# Altium schematic symbol library PSOM.SchLib: 3 symbols
Pins are listed as number, name and electrical type; pins without a type are passive.

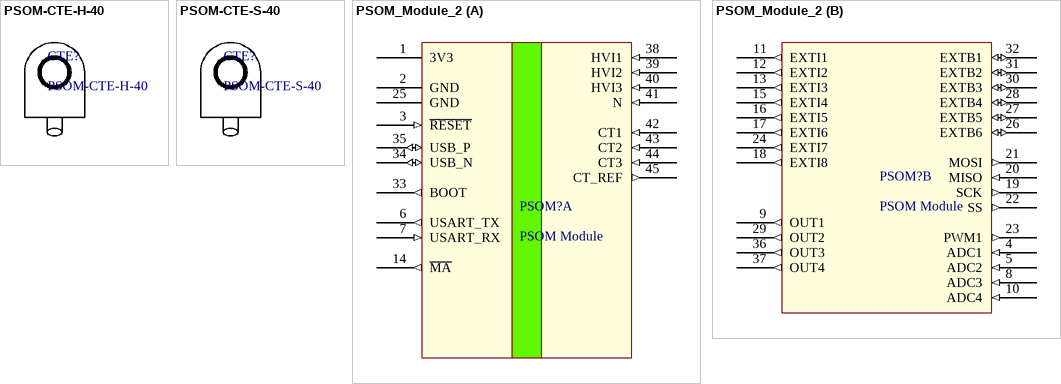
[diagram p0: symbols PSOM-CTE-H-40 to PSOM_Module_2]

## PSOM-CTE-H-40
designator CTE?
Max. current: 40Arms; Autor: Nils Minor; Version: 1
footprint PSOM-CTE-H-40 (PSOM PSOM-CTE-H-40 Current transformer)

## PSOM-CTE-S-40
designator CTE?
Max. current: 40Arms; Autor: Nils Minor; Version: 1
footprint PSOM-CTE-S-40 - duplicate (PSOM PSOM-CTE-S-40 Current transformer)

## PSOM_Module_2
designator PSOM?, comment PSOM Module
Power analysis system on a module; Contact: nilsminor@web.de; Creator: Nils Minor; Version: V2; Creation Date: 02.04.2017; Information: https://github.com/NilsMinor/PSOM
footprint PSOM (Version 2 (30x30))
part A pins: 1 3V3 (power) "3V3 module power supply VDD", 2 GND (power) "GND module VCC", 3 ~{RESET} (in) "Reset Input active low", 6 USART_TX (out) "USART_TX output", 7 USART_RX (in) "USART_RX input", 14 ~{MA} (out) "Measurement active, active low", 25 GND (power) "GND module VCC", 33 BOOT (out), 34 USB_N (io) "USB-", 35 USB_P (io) "USB+", 38 HVI1 (in) "High voltage input 1", 39 HVI2 (in) "High voltage input 2", 40 HVI3 (in) "High voltage input 3", 41 N (in) "Neutral line input", 42 CT1 (in) "Current transformer input 1", 43 CT2 (in) "Current transformer input 2", 44 CT3 (in) "Current transformer input 3", 45 CT_REF (out) "Reference source for Current transformers"
part B pins: 4 ADC1 (in), 5 ADC2 (in), 8 ADC3 (in), 9 OUT1 (out), 10 ADC4 (in), 11 EXTI1 (out), 12 EXTI2 (out), 13 EXTI3 (out), 15 EXTI4 (out), 16 EXTI5 (out), 17 EXTI6 (out), 18 EXTI8 (out), 19 SCK (out), 20 MISO (in), 21 MOSI (out), 22 SS (out), 23 PWM1 (out), 24 EXTI7 (out), 26 EXTB6 (io), 27 EXTB5 (io), 28 EXTB4 (io), 29 OUT2 (out), 30 EXTB3 (io), 31 EXTB2 (io), 32 EXTB1 (io), 36 OUT3 (out), 37 OUT4 (out)